# EAGLE library part WE-DS_216612013 (library Wurth_Elektronik_Passive_rev16c)
WE-DS D-SUB-Filter Connectors Bent 90° Characteristics Standard type filtered with 1000 pF High attenuation of more than 40 dB @ 180 MHz Choice of earthing metal sheet or high speed earthing clip Rated voltage: 100 VDC Rated current @ 20 ºC: 5 A Withstand voltage: 250 VRMS Insulation resistance: min. 1000 MΩ Operating temperature: –55 ºC to +125 ºC Applications Filtering of interfaces External connection to -printer -sensor -display <http://katalog.we-online.de/media/images/v2/Family_d-sub_filter_90_abgewinkelt.jpg> Details see: http://katalog.we-online.de/en/pbs/D-SUB-FILTER-BENT90 2016 (C) Wurth Elektronik
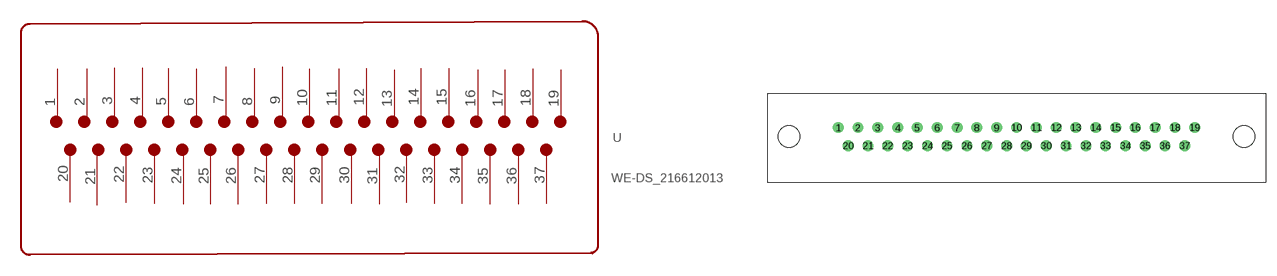
[diagram p254: symbol with the pads of WE-DS_2166120X3; footprint WE-DS_2166120X3]

Designator prefix -

## WE-DS_216612013  [WE-DS_2166120X3]
1  1
2  2
3  3
4  4
5  5
6  6
7  7
8  8
9  9
10  10
11  11
12  12
13  13
14  14
15  15
16  16
17  17
18  18
19  19
20  20
21  21
22  22
23  23
24  24
25  25
26  26
27  27
28  28
29  29
30  30
31  31
32  32
33  33
34  34
35  35
36  36
37  37

## Footprint WE-DS_2166120X3 (pad centres in mm)
drill 1: 1 -24.84,1.27; 2 -22.1,1.27; 3 -19.33,1.27; 4 -16.56,1.27; 5 -13.82,1.27; 6 -11.05,1.27; 7 -8.28,1.27; 8 -5.54,1.27; 9 -2.77,1.27; 10 0,1.27; 11 2.77,1.27; 12 5.54,1.27; 13 8.28,1.27; 14 11.05,1.27; 15 13.82,1.27; 16 16.56,1.27; 17 19.33,1.27; 18 22.1,1.27; 19 24.84,1.27; 20 -23.47,-1.27; 21 -20.7,-1.27; 22 -17.96,-1.27; 23 -15.19,-1.27; 24 -12.42,-1.27; 25 -9.68,-1.27; 26 -6.91,-1.27; 27 -4.14,-1.27; 28 -1.38,-1.27; 29 1.38,-1.27; 30 4.14,-1.27; 31 6.91,-1.27; 32 9.68,-1.27; 33 12.42,-1.27; 34 15.19,-1.27; 35 17.96,-1.27; 36 20.7,-1.27; 37 23.47,-1.27
hole 3 at -31.75,0
hole 3 at 31.75,0